# Altium schematic symbol library GENERIC_CONN_USBC.SchLib: 1 symbol
Pins are listed as number, name and electrical type; pins without a type are passive.

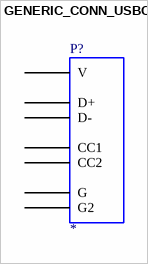
[diagram p0: symbol GENERIC_CONN_USBC]

## GENERIC_CONN_USBC
designator P?
pins: CC1, CC2, D+, D-, G, G2, V